# Altium schematic symbol library SCH - ADC - AD AD1974WBSTZ.Schlib: 1 symbol
Pins are listed as number, name and electrical type; pins without a type are passive.

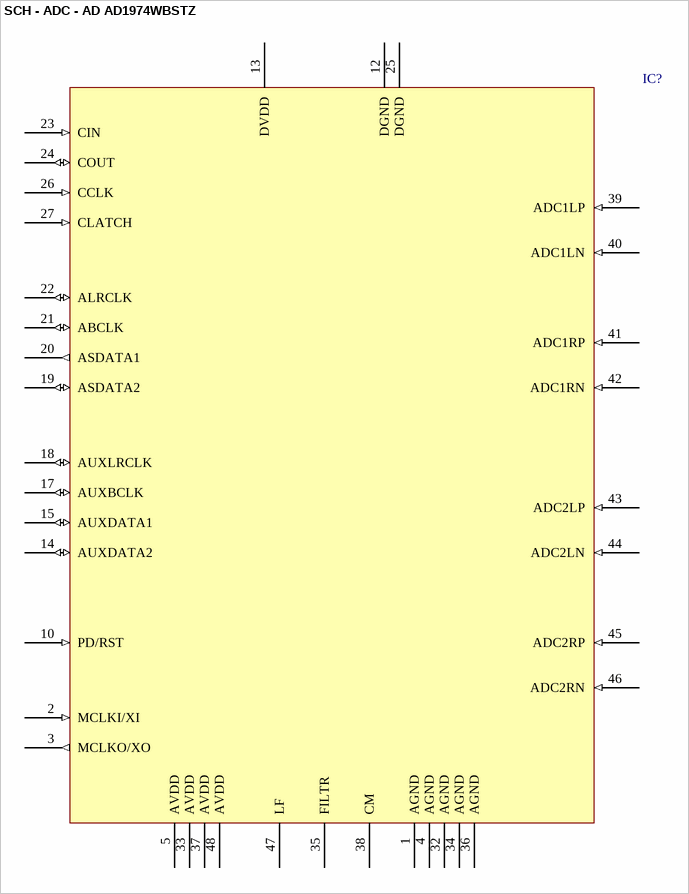
[diagram p0: symbol SCH - ADC - AD AD1974WBSTZ]

## SCH - ADC - AD AD1974WBSTZ
designator IC?
footprint TSQFP50P900X900X160-48N (TSQFP, 48-Leads, Body 9,2x9,2mm (max), Pitch 0,50mm, IPC Medium Density)
pins: 1 AGND (power), 2 MCLKI/XI (in), 3 MCLKO/XO (out), 4 AGND (power), 5 AVDD (power), 10 PD/RST (in), 12 DGND (power), 13 DVDD (power), 14 AUXDATA2 (io), 15 AUXDATA1 (io), 17 AUXBCLK (io), 18 AUXLRCLK (io), 19 ASDATA2 (io), 20 ASDATA1 (out), 21 ABCLK (io), 22 ALRCLK (io), 23 CIN (in), 24 COUT (io), 25 DGND (power), 26 CCLK (in), 27 CLATCH (in), 32 AGND (power), 33 AVDD (power), 34 AGND (power), 35 FILTR, 36 AGND (power), 37 AVDD (power), 38 CM, 39 ADC1LP (in), 40 ADC1LN (in), 41 ADC1RP (in), 42 ADC1RN (in), 43 ADC2LP (in), 44 ADC2LN (in), 45 ADC2RP (in), 46 ADC2RN (in), 47 LF, 48 AVDD (power)